# EAGLE library part LPC810M021FN8 (library nxp_60_1_1)
32-bit ARM Cortex-M0+ microcontroller The LPC81xM are an ARM Cortex-M0+ based, low-cost 32-bit MCU family operating at CPU frequencies of up to 30 MHz. The LPC81xM support up to 16 kB of flash memory and 4 kB of SRAM. The peripheral complement of the LPC81xM includes a CRC engine, one I 2 C-bus interface, up to three USARTs, up to two SPI interfaces, one multi-rate timer, self wake-up timer, and state-configurable timer, one comparator, function-configurable I/O ports through a switch matrix, an input pattern match engine, and up to 18 general-purpose I/O pins. AAL Eindhoven MK
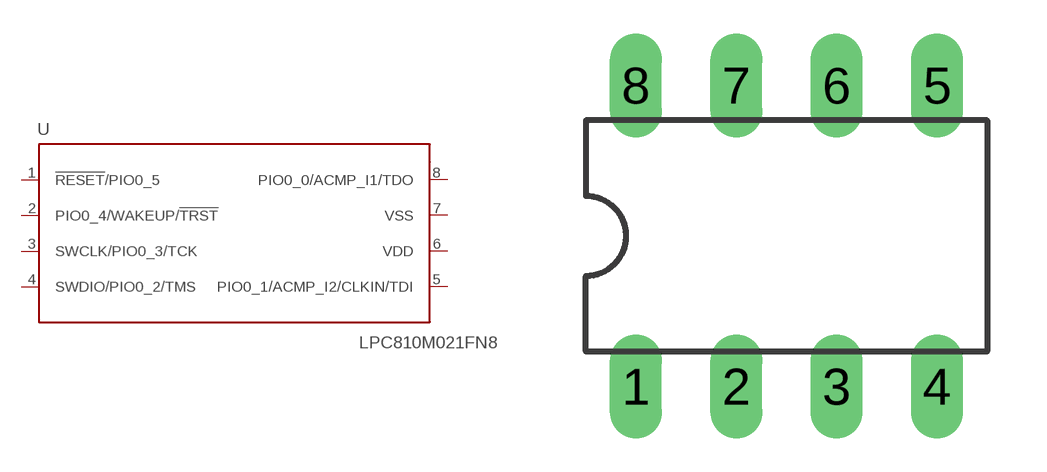
[diagram p114: symbol with the pads of SOT97-1; footprint SOT97-1]

Designator prefix U

## LPC810M021FN8 (COMP: 1; FLASH: 4k; GPIO: 6; I2C: 1; SPI: 1; SRAM: 1k; USART: 2)  [SOT97-1]
1  !RESET!/PIO0_5
2  PIO0_4/WAKEUP/!TRST!
3  SWCLK/PIO0_3/TCK
4  SWDIO/PIO0_2/TMS
5  PIO0_1/ACMP_I2/CLKIN/TDI
6  VDD  pwr
7  VSS  pwr
8  PIO0_0/ACMP_I1/TDO

## Footprint SOT97-1 (pad centres in mm)
Dual In Line Package
drill 0.813 long: 1 -3.81,-3.81; 2 -1.27,-3.81; 3 1.27,-3.81; 4 3.81,-3.81; 5 3.81,3.81; 6 1.27,3.81; 7 -1.27,3.81; 8 -3.81,3.81